# Altium schematic symbol library LinearRegulator.SchLib: 5 symbols
Pins are listed as number, name and electrical type; pins without a type are passive.

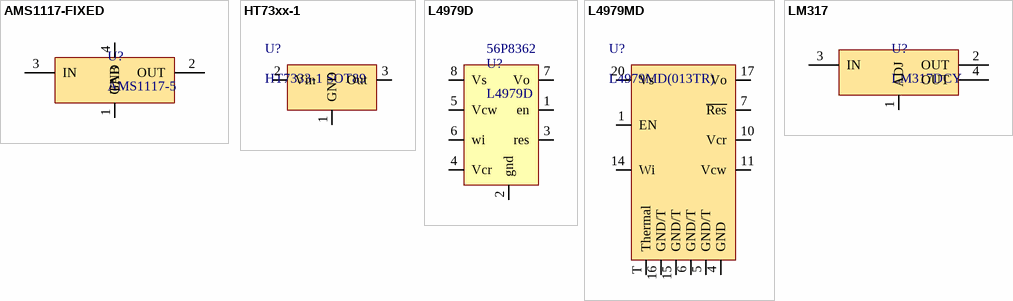
[diagram p0: symbols AMS1117-FIXED to LM317]

## AMS1117-FIXED
designator U?, comment AMS1117-5
Linear Regulator; Type: AMS1117-5
footprint SOT223_AMS1117-5.0_ADS
pins: 1 GND, 2 OUT, 3 IN, 4 TAB

## HT73xx-1
designator U?, comment HT7333-1 SOT89
30V，250mA 低功耗LDO; Type: HT7333-1 SOT89
footprint SOT89-150P410X160-3N (SOT89, 3-Leads, Body 4.50x2.45mm, Pitch 1.50mm, Lead Span 4.1mm, IPC Medium Density)
pins: 1 GND, 2 Vin, 3 Out

## L4979D
designator U?  Supplier Part Number 1: 56P8362
LDO Regulator Pos 5V 0.3A Automotive 8-Pin SO N Tube; Manufacturer: STMicroelectronics; Min Input Voltage: 6V; Output Current: 300mA; Number of Outputs: 1; Max Input Voltage: 31V; Dropout Voltage: 200mV; Input Bias Current: 1.5mA; Min Current Limit: 150mA; Polarity: Positive; Quiescent Current: 3mA; Accuracy: 2%; Output Type: Fixed; Supplier 1: Newark; Manufacturer Part Number: L4979D; RoHS: Yes; Category: Voltage Regulators - Linear; Mount: Surface Mount; Case/Package: SO; Number of Pins: 8; Min Operating Temperature: -40°C; Max Operating Temperature: 150°C; Output Voltage: 5V; Packaging: Rail/Tube; Max Output Current: 300mA; Package Quantity: 100; Number of Regulators: 1; Output Voltage Accuracy: 2%; Radiation Hardening: No; RoHS Compliant: Yes; ComponentLink1URL: https://datasheet.ciiva.com/4890/cd00005321-53624-4890545.pdf?src-supplier=Mouser; ComponentLink1Description: https://datasheet.ciiva.com/4890/cd00005321-53624-4890545.pdf?src-supplier=Mouser; ComponentLink2URL: https://datasheet.ciiva.com/15193/getdatasheetpartid-563539-15193158.pdf?src-supplier=Verical; ComponentLink2Description: https://datasheet.ciiva.com/15193/getdatasheetpartid-563539-15193158.pdf?src-supplier=Verical
footprint SOIC127P600X175-8N (SOIC, 8-Leads, Body 4.90x3.89mm, Pitch 1.27mm, IPC Medium Density)
pins: 1 en, 2 gnd, 3 res, 4 Vcr, 5 Vcw, 6 wi, 7 Vo, 8 Vs

## L4979MD
designator U?, comment L4979MD(013TR)
Automotive low dropout voltage regulator; Type: L4979MD(013TR)
footprint SOIC127P1030X265_HS-21N_Thermal (SOIC, 20-Leads, Body 12.80x7.50mm, Pitch 1.27mm, Thermal Pad 0.00x0.00mm, IPC Medium Density)
pins: 1 EN, 4 GND, 5 GND/T, 6 GND/T, 7 ~{Res}, 10 Vcr, 11 Vcw, 14 Wi, 15 GND/T, 16 GND/T, 17 Vo, 20 Vs, T Thermal

## LM317
designator U?, comment LM317DCY
Linear Regulator; Type: LM317DCY
footprint SOT230P700X180-4N (SOT223, 4-Leads, Body 6.50x7.00mm (avg), Pitch 2.30mm, IPC Medium Density)
footprint TO-252-3-D2PAK_KTT
pins: 1 ADJ, 2 OUT, 3 IN, 4 OUT